# Altium footprint library PCB Library.PcbLib: 22 footprints (part 1 of 2)
Each footprint in its own frame and in the unit in brackets; x right, y up, seen from the top. Pads: shape width x height; smd on the part's side, far side on the other; paste and mask are expansions set on the pad; w line width, h text height; cw(c..) or ccw(c..) is an arc to the next point about the centre after c.
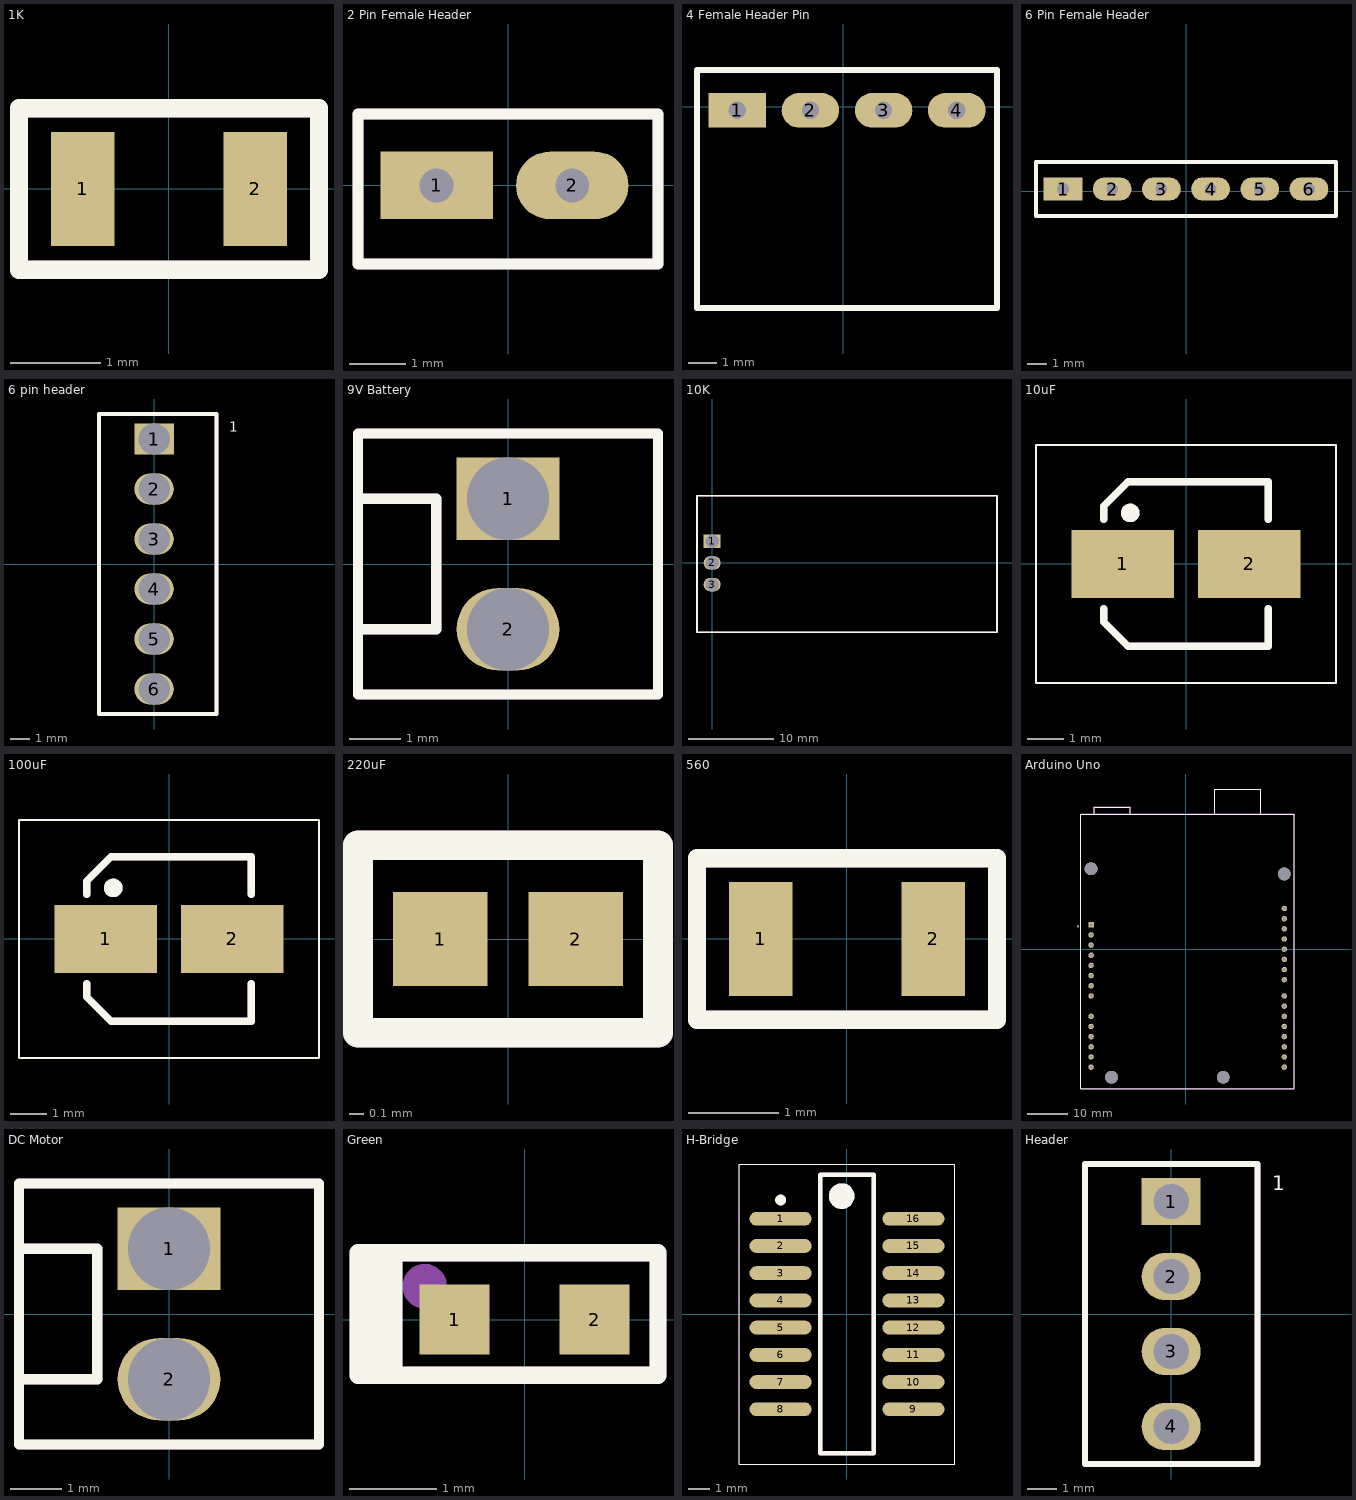
[diagram p0: the footprints below, top view; thin cyan lines are the x and y axes]

## 1K [mm]
pads (2):
  rect 0.7x1.25 smd: 1(-0.95,0) 2(0.95,0)
Top Overlay:
  lines w0.2: -1.651,-0.889 -1.651,0.889 1.651,0.889 1.651,-0.889 -1.651,-0.889
Mechanical 2:
  lines w0.2: -1.651,-0.889 1.651,-0.889 1.651,0.889 -1.651,0.889 -1.651,-0.889
  text "'.Designator'" at -1.397,-0.508 h0.5
3D body "User Library-CR2012-0805.step": height 0.61, standoff 0.01, extent -1,-0.625 1,0.625

## 2 Pin Female Header [mm]
pads (2):
  rect 2x1.2 hole 0.6: 1(-1.27,0)
  oval 2x1.2 hole 0.6: 2(1.143,0)
Top Overlay:
  lines w0.2: -2.667,-1.397 -2.667,1.27 2.667,1.27 2.667,-1.397 -2.667,-1.397
Mechanical 2:
  lines w0.2: -2.667,-1.397 2.667,-1.397 2.667,1.27 -2.667,1.27 -2.667,-1.397
  text "'.Designator'" at -2.413,-0.254 h0.5
3D body "c-215297-2-d-3d.stp": height 0, standoff -10, extent -2.54,-1.26 2.54,1.26

## 4 Female Header Pin [mm]
pads (4):
  rect 2x1.2 hole 0.6: 1(-3.683,-0.127)
  oval 2x1.2 hole 0.6: 2(-1.143,-0.127) 3(1.397,-0.127) 4(3.937,-0.127)
Top Overlay:
  lines w0.2: -5.08,-6.985 -5.08,1.27 5.334,1.27 5.334,-6.985 -5.08,-6.985
Mechanical 2:
  lines w0.2: -5.08,-6.985 5.334,-6.985 5.334,1.27 -5.08,1.27 -5.08,-6.985
  text "'.Designator'" at -2.413,-0.254 h0.5
3D body "038001334.stp": height 0, standoff -7.87, extent -4.902,-6.782 5.156,1.27

## 6 Pin Female Header [mm]
pads (6):
  rect 2x1.2 hole 0.6: 1(-6.35,0.127)
  oval 2x1.2 hole 0.6: 2(-3.81,0.127) 3(-1.27,0.127) 4(1.27,0.127) 5(3.81,0.127) 6(6.35,0.127)
Top Overlay:
  lines w0.2: -7.747,-1.27 -7.747,1.524 7.747,1.524 7.747,-1.27 -7.747,-1.27
Mechanical 2:
  lines w0.2: -7.747,-1.27 7.747,-1.27 7.747,1.524 -7.747,1.524 -7.747,-1.27
  text "'.Designator'" at -2.413,0 h0.5
3D body "c-215299-6-e-3d.stp": height 0, standoff -11.5, extent -7.62,-1.133 7.62,1.387

## 6 pin header [mm]
pads (6):
  rect 2x1.6 hole 1.6: 1(0,6.35)
  oval 2x1.6 hole 1.6: 2(0,3.81) 3(0,1.27) 4(0,-1.27) 5(0,-3.81) 6(0,-6.35)
Top Overlay:
  lines w0.2: -2.794,-7.62 3.175,-7.62 3.175,7.62 -2.794,7.62 -2.794,-7.62
  text "1" at 3.81,6.731 h0.5
Mechanical 2:
  lines w0.2: -2.794,-7.62 -2.794,7.62 3.175,7.62 3.175,-7.62 -2.794,-7.62
  text "'.Designator'" at -2.667,0.762 h0.5
3D body "c-640456-6-aa-3d.stp": height 7.49, standoff -6.1, extent -2.731,-7.62 3.111,7.62

## 9V Battery [mm]
pads (2):
  rect 2x1.6 hole 1.6: 1(0,1.27)
  oval 2x1.6 hole 1.6: 2(0,-1.27)
Top Overlay:
  lines w0.2: -2.921,-1.27 -1.397,-1.27 -1.397,1.27 -2.921,1.27 ; -2.921,-2.54 -2.921,2.54 2.921,2.54 2.921,1.524 2.921,-2.54 -2.921,-2.54
Mechanical 2:
  lines w0.2: -2.921,-1.27 -1.397,-1.27 -1.397,1.27 -2.921,1.27 ; -2.921,-2.54 2.921,-2.54 2.921,1.524 2.921,2.54 -2.921,2.54 -2.921,-2.54
  text "'.Designator'" at -0.889,-0.254 h0.5
3D body "Header.stp": height 11.71, standoff -3.55, extent -2.9,-2.54 2.9,2.54

## 10K [mm]
pads (3):
  rect 2x1.6 hole 1.6: 1(0,2.54)
  oval 2x1.6 hole 1.6: 2(0,0) 3(0,-2.54)
Top Overlay:
  lines w0.2: -1.778,-8.128 -1.778,7.874 33.401,7.874 33.401,-8.128 -1.778,-8.128
Mechanical 2:
  lines w0.2: -1.778,-8.128 33.401,-8.128 33.401,7.874 -1.778,7.874 -1.778,-8.128
  text "'.Designator'" at 11.049,0.635 h0.5
3D body "91A1A-B28.stp": height 17.46, standoff -15.23, extent -1.651,-8.064 33.274,7.81

## 10uF [mm] "Aluminum Electrolytic Capacitor, Body 4.30x4.30x6.30mm, IPC Low Density"
height 6.3
pads (2):
  rect 2.8x1.85 smd: 1(-1.725,0) 2(1.725,0)
Top Overlay:
  circle w0.254: c-1.524,1.397 r0.127
  lines w0.05: -4.1,-3.25 4.1,-3.25 4.1,3.25 -4.1,3.25 -4.1,-3.25
  lines w0.2: -2.25,-1.225 -2.25,-1.587 -1.587,-2.25 2.25,-2.25 2.25,-1.225 ; -2.25,1.225 -2.25,1.587 -1.587,2.25 2.25,2.25 2.25,1.225
Mechanical 2:
  circle w0.254: c-1.524,1.397 r0.127
  lines w0.2: -2.25,-1.225 -2.25,-1.587 -1.587,-2.25 2.25,-2.25 2.25,-1.225 ; -2.25,1.225 -2.25,1.587 -1.587,2.25 2.25,2.25 2.25,1.225
  text "'.Designator'" at -1.651,-0.254 h0.5
3D body "CAPAE4643X63M.step": height 6.3, standoff 0, extent -2.3,-2.25 2.3,2.25

## 100uF [mm]
pads (2):
  rect 2.8x1.85 smd: 1(-1.725,0) 2(1.725,0)
Top Overlay:
  circle w0.254: c-1.524,1.397 r0.127
  lines w0.05: -4.1,-3.25 4.1,-3.25 4.1,3.25 -4.1,3.25 -4.1,-3.25
  lines w0.2: -2.25,-1.225 -2.25,-1.587 -1.587,-2.25 2.25,-2.25 2.25,-1.225 ; -2.25,1.225 -2.25,1.587 -1.587,2.25 2.25,2.25 2.25,1.225
Mechanical 2:
  circle w0.254: c-1.524,1.397 r0.127
  lines w0.2: -2.25,-1.225 -2.25,-1.587 -1.587,-2.25 2.25,-2.25 2.25,-1.225 ; -2.25,1.225 -2.25,1.587 -1.587,2.25 2.25,2.25 2.25,1.225
  text "'.Designator'" at -1.651,-0.254 h0.5
3D body "CAPAE4643X63M.step": height 6.3, standoff 0, extent -2.3,-2.25 2.3,2.25

## 220uF [mm] "Chip Capacitor, 2-Leads, Body 1.00x0.50mm, IPC Medium Density"
height 0.6
pads (2):
  rect 0.64x0.64 smd: 1(-0.46,0) 2(0.46,0)
Top Overlay:
  lines w0.2: -1.016,-0.635 -1.016,0.635 1.016,0.635 1.016,-0.635 -1.016,-0.635
Mechanical 2:
  lines w0.2: -1.016,-0.635 1.016,-0.635 1.016,0.635 -1.016,0.635 -1.016,-0.635
  text "'.Designator'" at -0.889,-0.254 h0.5
3D body "CAPC1005X06N.step": height 0.6, standoff 0, extent -0.55,-0.3 0.55,0.3

## 560 [mm]
pads (2):
  rect 0.7x1.25 smd: 1(-0.95,0) 2(0.95,0)
Top Overlay:
  lines w0.2: -1.651,-0.889 -1.651,0.889 1.651,0.889 1.651,-0.889 -1.651,-0.889
Mechanical 2:
  lines w0.2: -1.651,-0.889 1.651,-0.889 1.651,0.889 -1.651,0.889 -1.651,-0.889
  text "'.Designator'" at -1.397,-0.508 h0.5
3D body "User Library-CR2012-0805.step": height 0.61, standoff 0.01, extent -1,-0.625 1,0.625

## Arduino Uno [mil]
pads (34):
  rect 53.46x53.46 hole 33.46: 1(-930,240)
  round 53.46 hole 33.46: 2(-930,140) 3(-930,40) 4(-930,-60) 5(-930,-160) 6(-930,-260) 7(-930,-360) 8(-930,-460) 9(-930,-660) 10(-930,-760) 11(-930,-860) 12(-930,-960) 13(-930,-1060) 14(-930,-1160) 15(970,-1160) 16(970,-1060) 17(970,-960) 18(970,-860) 19(970,-760) 20(970,-660) 21(970,-560) 22(970,-460) 23(970,-300) 24(970,-200) 25(970,-100) 26(970,0) 27(970,100) 28(970,200) 29(970,300) 30(970,400)
  round 125.98 hole 125.98 unplated: None(-930,790) None(-730,-1260) None(370,-1260) None(970,740)
Top Overlay:
  circle w9.45: c-1058.74,223.03 r4.72
  lines w5: 107.4,1325 740,1325 ; -900.08,1325 -1030,1325 -1030,-1375 1070,-1375 1070,1325 740,1325 ; -900.08,1325 -546.06,1325 ; -900.08,1325 -900.08,1396.26 -546.06,1396.26 -546.06,1325 ; -546.06,1325 285,1325 285,1575 740,1575 740,1325
Mechanical 2:
  circle w9.45: c-1058.74,228.03 r4.72
  lines w5: 115,1330 740,1330 ; -900.08,1330 -900.08,1401.26 -546.06,1401.26 -546.06,1330 ; -900.08,1330 -546.06,1330 ; -900.08,1330 -1030,1330 -1030,-1370 1070,-1370 1070,1330 740,1330 ; -546.06,1330 285,1330 285,1575 740,1575 740,1330
  text "'.Designator'" at -895,195 h196.85
3D body "User Library-Arduino-UNO.STEP": height 503.5, standoff -82.96, extent -1039.2,-1357.38 1059.22,1581.59

## DC Motor [mm]
pads (2):
  rect 2x1.6 hole 1.6: 1(0,1.27)
  oval 2x1.6 hole 1.6: 2(0,-1.27)
Top Overlay:
  lines w0.2: -2.921,-1.27 -1.397,-1.27 -1.397,1.27 -2.921,1.27 ; -2.921,-2.54 2.921,-2.54 2.921,1.524 2.921,2.54 -2.921,2.54 -2.921,-2.54
Mechanical 2:
  lines w0.2: -2.921,-1.27 -1.397,-1.27 -1.397,1.27 -2.921,1.27 ; -2.921,-2.54 -2.921,2.54 2.921,2.54 2.921,1.524 2.921,-2.54 -2.921,-2.54
  text "'.Designator'" at -0.889,-0.254 h0.5
3D body "Header.stp": height 11.71, standoff -3.55, extent -2.9,-2.54 2.9,2.54

## Green [mm]
pads (2):
  rect 0.8x0.8 smd: 1(-0.8,0) 2(0.8,0)
Top Overlay:
  rectangle: -1.905,-0.635 -1.397,0.762
  lines w0.2: -1.905,-0.635 1.524,-0.635 1.524,0.762 -1.905,0.762 -1.905,-0.635
Mechanical 2:
  circle w0.254: c-1.143,0.381 r0.127
  rectangle: -1.905,-0.635 -1.397,0.762
  lines w0.2: -1.905,-0.635 -1.905,0.762 1.524,0.762 1.524,-0.635 -1.905,-0.635
  text "'.Designator'" at -0.889,-0.254 h0.5
3D body "User Library-LED_0603_G.STEP": height 0.6, standoff 0, extent -0.8,-0.4 0.8,0.4

## H-Bridge [mm] "SOJ, 16-Leads, Body 13.00x8.66mm, Pitch 1.27mm, IPC Low Density"
height 3.56
pads (16):
  oval 2.9x0.65 smd: 1(-3.1,4.445) 2(-3.1,3.175) 3(-3.1,1.905) 4(-3.1,0.635) 5(-3.1,-0.635) 6(-3.1,-1.905) 7(-3.1,-3.175) 8(-3.1,-4.445) 9(3.1,-4.445) 10(3.1,-3.175) 11(3.1,-1.905) 12(3.1,-0.635) 13(3.1,0.635) 14(3.1,1.905) 15(3.1,3.175) 16(3.1,4.445)
Top Overlay:
  circle w0.25: c-3.1,5.32 r0.125
  circle w0.6: c-0.25,5.5 r0.3
  lines w0.05: -5.025,-7 5.025,-7 5.025,7 -5.025,7 -5.025,-7
  lines w0.2: -1.25,-6.5 -1.25,6.5 1.25,6.5 1.25,-6.5 -1.25,-6.5
Mechanical 2:
  circle w0.6: c-0.25,5.5 r0.3
  circle w0.25: c-3.1,5.32 r0.125
  lines w0.05: -5.025,-7 -5.025,7 5.025,7 5.025,-7 -5.025,-7
  lines w0.2: -1.25,-6.5 1.25,-6.5 1.25,6.5 -1.25,6.5 -1.25,-6.5
  text "'.Designator'" at -0.508,-0.127 h0.5
3D body "SOJ127P870X356-16M.step": height 3.56, standoff 0, extent -4.53,-6.5 4.53,6.5

## Header [mm]
pads (4):
  rect 2x1.6 hole 1.2: 1(0,3.81)
  oval 2x1.6 hole 1.2: 2(0,1.27) 3(0,-1.27) 4(0,-3.81)
Top Overlay:
  lines w0.2: -2.921,-5.08 2.921,-5.08 2.921,5.08 -2.921,5.08 -2.921,-5.08
  text "1" at 3.429,4.191 h0.5
Mechanical 2:
  lines w0.2: -2.921,-5.08 -2.921,5.08 2.921,5.08 2.921,-5.08 -2.921,-5.08
  text "'.Designator'" at -2.54,0.127 h0.5
3D body "c-640456-4-aa-3d.stp": height 7.49, standoff -6.1, extent -2.858,-5.08 2.984,5.08